# EAGLE library part RAJX_V4.5_REVA_SI5351 (library KEW_HF_V16)
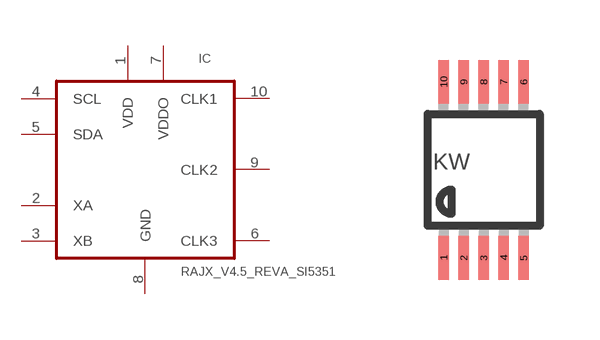
[diagram p2: symbol with the pads of RAJX_V4.5_REVA_MSOP10; footprint RAJX_V4.5_REVA_MSOP10]

Designator prefix IC

## RAJX_V4.5_REVA_SI5351A  [RAJX_V4.5_REVA_MSOP10]
1  VDD
2  XA
3  XB
4  SCL
5  SDA
6  CLK3
7  VDDO
8  GND
9  CLK2
10  CLK1

## Footprint RAJX_V4.5_REVA_MSOP10 (pad centres in mm)
10-Lead Mini Small Outline Package [MSOP] (RM-10) Source: http://www.analog.com/UploadedFiles/Data_Sheets/35641221898805SSM2167_b.pdf COMPLIANT TO JEDEC STANDARDS MO-187BA
smd 0.27 x 1.1: 1 -1,-2.2; 2 -0.5,-2.2; 3 0,-2.2; 4 0.5,-2.2; 5 1,-2.2; 6 1,2.2; 7 0.5,2.2; 8 0,2.2; 9 -0.5,2.2; 10 -1,2.2